# Altium schematic symbol library SCH - MCU - ATMEGA - MICROCHIP ATMEGA16-16PU PDIP40.SchLib: 1 symbol
Pins are listed as number, name and electrical type; pins without a type are passive.

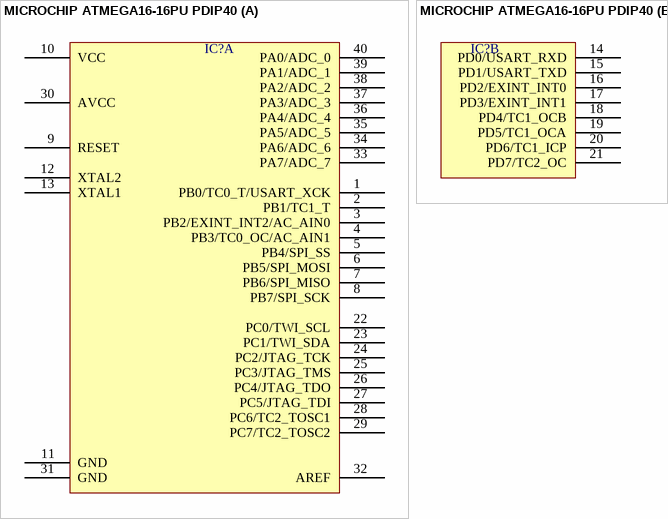
[diagram p0: symbol MICROCHIP ATMEGA16-16PU PDIP40]

## MICROCHIP ATMEGA16-16PU PDIP40
designator IC?  (value not drawn)
part A pins: 1 PB0/TC0_T/USART_XCK, 2 PB1/TC1_T, 3 PB2/EXINT_INT2/AC_AIN0, 4 PB3/TC0_OC/AC_AIN1, 5 PB4/SPI_SS, 6 PB5/SPI_MOSI, 7 PB6/SPI_MISO, 8 PB7/SPI_SCK, 9 RESET, 10 VCC, 11 GND, 12 XTAL2, 13 XTAL1, 22 PC0/TWI_SCL, 23 PC1/TWI_SDA, 24 PC2/JTAG_TCK, 25 PC3/JTAG_TMS, 26 PC4/JTAG_TDO, 27 PC5/JTAG_TDI, 28 PC6/TC2_TOSC1, 29 PC7/TC2_TOSC2, 30 AVCC, 31 GND, 32 AREF, 33 PA7/ADC_7, 34 PA6/ADC_6, 35 PA5/ADC_5, 36 PA4/ADC_4, 37 PA3/ADC_3, 38 PA2/ADC_2, 39 PA1/ADC_1, 40 PA0/ADC_0
part B pins: 14 PD0/USART_RXD, 15 PD1/USART_TXD, 16 PD2/EXINT_INT0, 17 PD3/EXINT_INT1, 18 PD4/TC1_OCB, 19 PD5/TC1_OCA, 20 PD6/TC1_ICP, 21 PD7/TC2_OC